# Altium schematic symbol library SiLabs Microcontroller 8-Bit 8051.SchLib: 120 symbols (part 2 of 9)
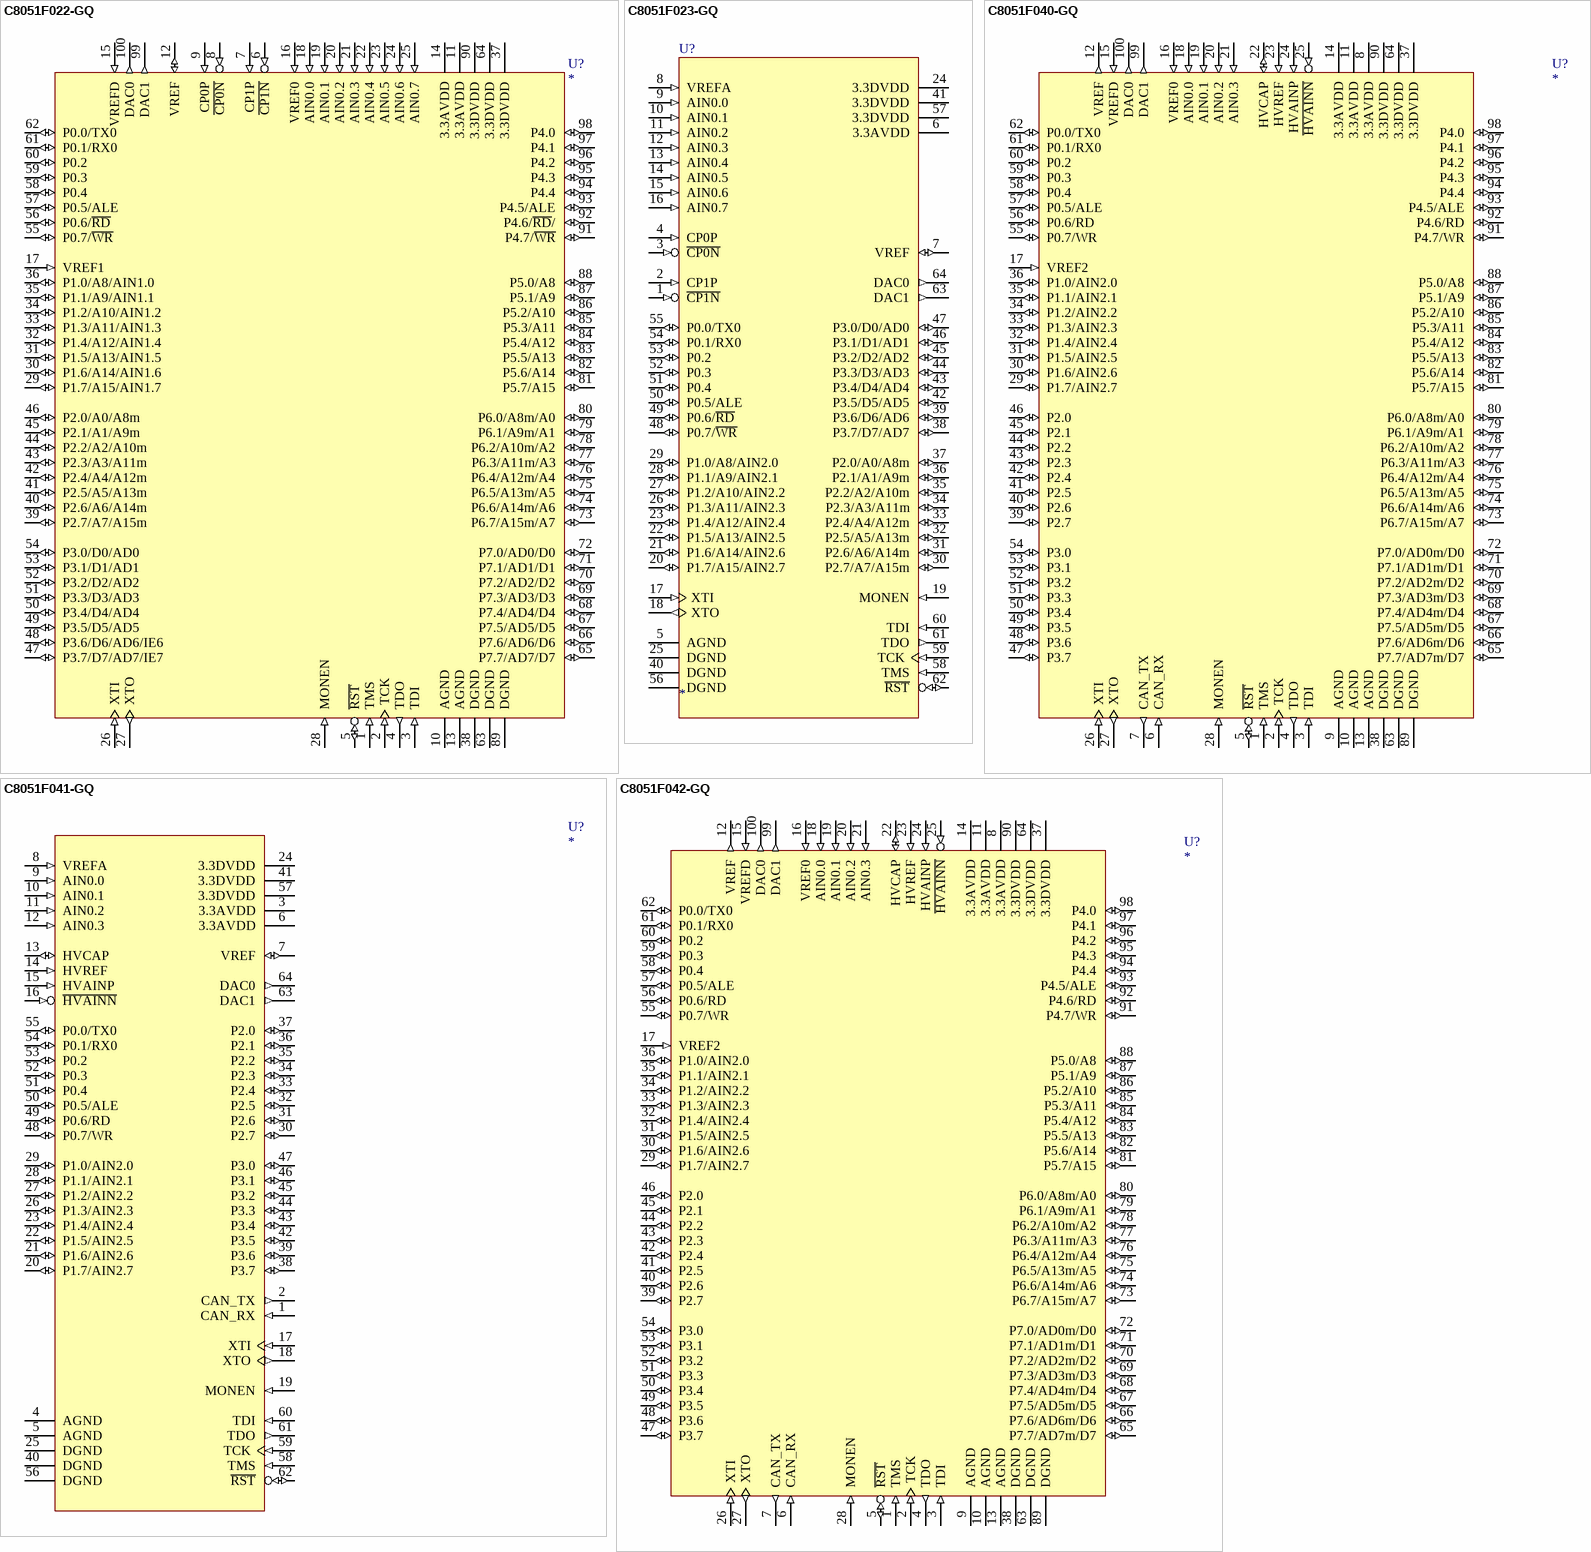
[diagram p15: symbols C8051F022-GQ to C8051F042-GQ]

## C8051F022-GQ
designator U?
8051 Microcontroller, 25MIPS, 64KiB Flash, 256Byte RAM + 4KiB XRAM, 64KiB EMIF, Internal Oscillator, 5-16bit Timer, 8CH 100ksps 10bit ADC, 8CH 500ksps 8bit ADC, 2CH 12bit DAC, 2 UART, I2C, SPI, PCA, 2 Comparator, 64GPIO.; Manufacture: Silicon Laboratories; Compliant: RoHS; CompliantInformationSource: Silicon Laboratries; PackageDocument: 2003-12; TempertureRange: Industrial (-40 to +85Cel); ComponentLink1Description: Manufacture Link; ComponentLink1URL: http://www.silabs.com/; ComponentLink2Description: Datasheet; ComponentLink2URL: https://www.silabs.com/Support Documents/TechnicalDocs/C8051F02x.pdf; DatasheetDocument: Rev. 1.4, 2003-12; PackageReference: TQFP-100; Published: 2006-05-07; Publisher: A and A System Co., Ltd.; DigiKeyPartNumber: 336-1202-ND
footprint TQFP-100/e0.5 (TQFP-100; Body Width 16mm; Pitch 0.5mm)
pins: 1 TMS (in) "JTAG Test Mode Select with internal pullup.", 2 TCK (in) "JTAG Test Clock with internal pullup.", 3 TDI (in) "JTAG Test Data Input with internal pullup.TDI is latched on the rising edge of TCK.", 4 TDO (out) "JTAG Test Data Output with internal pullup. Data is shifted out on TDO on the falling edge of TCK.  TDO output is a tri-state driver.", 5 ~{RST} (io) "Device Reset. Open-drain output of internal VDD monitor. Is driven low when VDD is < VRST and  MONEN is high. An external source can initiate  a system reset by driving this pin low.", 6 ~{CP1N} (in) "Comparator 1 Inverting Input.", 7 CP1P (in) "Comparator 1 Non-Inverting Input.", 8 ~{CP0N} (in) "Comparator 0 Inverting Input.", 9 CP0P (in) "Comparator 0 Non-Inverting Input.", 10 AGND (power) "Analog Ground. Must be tied to Ground.", 11 3.3AVDD (power) "Analog Supply Voltage. Must be tied to +2.7 to +3.6 V.", 12 VREF (io) "Bandgap Voltage Reference Output (all devices). DAC Voltage Reference Input (C8051F121/3/5/7 only).", 13 AGND (power) "Analog Ground. Must be tied to Ground.", 14 3.3AVDD (power) "Analog Supply Voltage. Must be tied to +2.7 to +3.6 V.", 15 VREFD (in) "DAC Voltage Reference Input.", 16 VREF0 (in) "ADC0 Voltage Reference Input.", 17 VREF1 (in) "ADC2 Voltage Reference Input.", 18 AIN0.0 (in) "ADC0 Input Channel 0 (See ADC0 Specification for complete description).", 19 AIN0.1 (in) "ADC0 Input Channel 1 (See ADC0 Specification for complete description).", 20 AIN0.2 (in) "ADC0 Input Channel 2 (See ADC0 Specification for complete description).", 21 AIN0.3 (in) "ADC0 Input Channel 3 (See ADC0 Specification for complete description).", 22 AIN0.4 (in) "ADC0 Input Channel 4 (See ADC0 Specification for complete description).", 23 AIN0.5 (in) "ADC0 Input Channel 5 (See ADC0 Specification for complete description).", 24 AIN0.6 (in) "ADC0 Input Channel 6 (See ADC0 Specification for complete description).", 25 AIN0.7 (in) "ADC0 Input Channel 7 (See ADC0 Specification for complete description).", 26 XTI (in) "Crystal Input. This pin is the return for the internal oscillator circuit for a crystal or ceramic resonator. For a precision internal clock, connect a crystal or ceramic resonator from XTAL1 to XTAL2. If overdriven by an external CMOS clock, this become", 27 XTO (out) "Crystal Output. This pin is the excitation driver for a crystal or ceramic resonator.", 28 MONEN (in) "VDD Monitor Enable. When tied high, this pin enables the internal VDD monitor, which forces a system reset when VDD is < VRST. When tied low, the internal VDD monitor is disabled. This pin must be tied high or low.", 29 P1.7/A15/AIN1.7 (io) "Port 1.7. See Port Input/Output section for complete description.", 30 P1.6/A14/AIN1.6 (io) "Port 1.6. See Port Input/Output section for complete description.", 31 P1.5/A13/AIN1.5 (io) "Port 1.5. See Port Input/Output section for complete  !description.", 32 P1.4/A12/AIN1.4 (io) "Port 1.4. See Port Input/Output section for complete description.", 33 P1.3/A11/AIN1.3 (io) "Port 1.3. See Port Input/Output section for complete description.", 34 P1.2/A10/AIN1.2 (io) "Port 1.2. See Port Input/Output section for complete description.", 35 P1.1/A9/AIN1.1 (io) "Port 1.1. See Port Input/Output section for complete description.", 36 P1.0/A8/AIN1.0 (io) "ADC2 Input Channel 0 (See ADC2 Specification for complete description). Bit 8 External Memory Address bus (Non-multiplexed  mode)  Port 1.0 See Port Input/Output section for complete description.", 37 3.3DVDD (power) "Digital Supply Voltage. Must be tied to +2.7 to +3.6 V.", 38 DGND (power) "Digital Ground. Must be tied to Ground.", 39 P2.7/A7/A15m (io) "Port 2.7. See Port Input/Output section for complete description.", 40 P2.6/A6/A14m (io) "Port 2.6. See Port Input/Output section for complete description.", 41 P2.5/A5/A13m (io) "Port 2.5. See Port Input/Output section for complete description.", 42 P2.4/A4/A12m (io) "Port 2.4. See Port Input/Output section for complete description.", 43 P2.3/A3/A11m (io) "Port 2.3. See Port Input/Output section for complete description.", 44 P2.2/A2/A10m (io) "Port 2.2. See Port Input/Output section for complete description.", 45 P2.1/A1/A9m (io) "Port 2.1. See Port Input/Output section for complete description.", 46 P2.0/A0/A8m (io) "Port 2.0. Bit 8 External Memory Address bus (Multiplexed mode) Bit 0 External Memory Address bus (Non-multiplexed mode) See Port Input/Output section for complete description.", 47 P3.7/D7/AD7/IE7 (io) "Port 3.7. See Port Input/Output section for complete description.", 48 P3.6/D6/AD6/IE6 (io) "OPort 3.6. See Port Input/Output section for complete description.", 49 P3.5/D5/AD5 (io) "Port 3.5. See Port Input/Output section for complete description.", 50 P3.4/D4/AD4 (io) "OPort 3.4. See Port Input/Output section for complete description.", 51 P3.3/D3/AD3 (io) "OPort 3.3. See Port Input/Output section for complete description.", 52 P3.2/D2/AD2 (io) "OPort 3.2. See Port Input/Output section for complete description.", 53 P3.1/D1/AD1 (io) "OPort 3.1. See Port Input/Output section for complete description.", 54 P3.0/D0/AD0 (io) "Port 3.0. Bit 0 External Memory Address/Data bus (Multiplexed  mode)  Bit 0 External Memory Data bus (Non-multiplexed  mode) See Port Input/Output section for complete description.", 55 P0.7/~{WR} (io) "Port 0.7. WR Strobe for External Memory Address bus. See Port Input/Output section for complete description.", 56 P0.6/~{RD} (io) "Port 0.6. RD Strobe for External Memory Address bus. See Port Input/Output section for complete description.", 57 P0.5/ALE (io) "Port 0.5. ALE Strobe for External Memory Address bus (multiplexed mode) See Port Input/Output section for complete description.", 58 P0.4 (io) "Port 0.4. See Port Input/Output section for complete description.", 59 P0.3 (io) "Port 0.3. See Port Input/Output section for complete description.", 60 P0.2 (io) "Port 0.2. See Port Input/Output section for complete description.", 61 P0.1/RX0 (io) "Port 0.1. See Port Input/Output section for complete description.", 62 P0.0/TX0 (io) "Port 0.0. See Port Input/Output section for complete description.", 63 DGND (power) "Digital Ground. Must be tied to Ground.", 64 3.3DVDD (power) "Digital Supply Voltage. Must be tied to +2.7 to +3.6 V.", 65 P7.7/AD7/D7 (io) "Port 7.7. See Port Input/Output section for complete description.", 66 P7.6/AD6/D6 (io) "Port 7.6. See Port Input/Output section for complete description.", 67 P7.5/AD5/D5 (io) "Port 7.5. See Port Input/Output section for complete description.", 68 P7.4/AD4/D4 (io) "Port 7.4. See Port Input/Output section for complete description.", 69 P7.3/AD3/D3 (io) "Port 7.3. See Port Input/Output section for complete description.", 70 P7.2/AD2/D2 (io) "Port 7.2. See Port Input/Output section for complete description.", 71 P7.1/AD1/D1 (io) "Port 7.1. See Port Input/Output section for complete description.", 72 P7.0/AD0/D0 (io) "Port 7.0. Bit 0 External Memory Address/Data bus (Multiplexed mode) Bit 0 External Memory Data bus (Non-multiplexed mode) See Port Input/Output section for complete description.", 73 P6.7/A15m/A7 (io) "Port 6.7. See Port Input/Output section for complete description.", 74 P6.6/A14m/A6 (io) "Port 6.6. See Port Input/Output section for complete description.", 75 P6.5/A13m/A5 (io) "Port 6.5. See Port Input/Output section for complete description.", 76 P6.4/A12m/A4 (io) "Port 6.4. See Port Input/Output section for complete description.", 77 P6.3/A11m/A3 (io) "Port 6.3. See Port Input/Output section for complete description.", 78 P6.2/A10m/A2 (io) "Port 6.2. See Port Input/Output section for complete description.", 79 P6.1/A9m/A1 (io) "Port 6.1. See Port Input/Output section for complete description.", 80 P6.0/A8m/A0 (io) "Port6.0. Bit 8 External Memory Address bus (Multiplexed mode) Bit 0 External Memory Address bus (Non-multiplexed mode) See Port Input/Output section for complete description.", 81 P5.7/A15 (io) "Port 5.7. See Port Input/Output section for complete description.", 82 P5.6/A14 (io) "Port 5.6. See Port Input/Output section for complete description.", 83 P5.5/A13 (io) "Port 5.5. See Port Input/Output section for complete description.", 84 P5.4/A12 (io) "Port 5.4. See Port Input/Output section for complete description.", 85 P5.3/A11 (io) "Port 5.3. See Port Input/Output section for complete description.", 86 P5.2/A10 (io) "Port 5.2. See Port Input/Output section for complete description.", 87 P5.1/A9 (io) "Port 5.1. See Port Input/Output section for complete description.", 88 P5.0/A8 (io) "Port 5.0. Bit 8 External Memory Address bus (Non-multiplexed mode) See Port Input/Output section for complete description.", 89 DGND (power) "Digital Ground. Must be tied to Ground.", 90 3.3DVDD (power) "Digital Supply Voltage. Must be tied to +2.7 to +3.6 V.", 91 P4.7/~{WR} (io) "Port 4.7. WR Strobe for External Memory Address bus. See Port Input/Output section for complete description.", 92 P4.6/~{RD}/ (io) "P4.6. RD Strobe for External Memory Address bus. See Port Input/Output section for complete description.", 93 P4.5/ALE (io) "Port 4.5, ALE Strobe for External Memory Address bus (multiplexed mode) See Port Input/Output section for complete description.", 94 P4.4 (io) "Port 4.4. See Port Input/Output section for complete description.", 95 P4.3 (io) "Port 4.3. See Port Input/Output section for complete description.", 96 P4.2 (io) "Port 4.2. See Port Input/Output section for complete description.", 97 P4.1 (io) "Port 4.1. See Port Input/Output section for complete description.", 98 P4.0 (io) "Port 4.0. See Port Input/Output section for complete description.", 99 DAC1 (out) "Digital to Analog Converter 1 Voltage Output. (See DAC Specification for complete description).", 100 DAC0 (out) "Digital to Analog Converter 0 Voltage Output. (See DAC Specification for complete description)."

## C8051F023-GQ
designator U?
8051 Microcontroller, 25MIPS, 64KiB Flash, 256Byte RAM + 4KiB XRAM, 64KiB EMIF, Internal Oscillator, 5-16bit Timer, 8CH 100ksps 10bit ADC, 8CH 500ksps 8bit ADC, 2CH 12bit DAC, 2 UART, I2C, SPI, PCA, 2 Comparator, 32GPIO.; Manufacture: Silicon Laboratories; Compliant: RoHS; CompliantInformationSource: Silicon Laboratries; PackageDocument: 2003-12; TempertureRange: Industrial (-40 to +85Cel); ComponentLink1Description: Manufacture Link; ComponentLink1URL: http://www.silabs.com/; ComponentLink2Description: Datasheet; ComponentLink2URL: https://www.silabs.com/Support Documents/TechnicalDocs/C8051F02x.pdf; DatasheetDocument: Rev. 1.4, 2003-12; PackageReference: TQFP-64; Published: 2006-05-07; Publisher: A and A System Co., Ltd.; DigiKeyPartNumber: 336-1203-ND
footprint TQFP-64/e0.5 (TQFP-64; Body Width 12mm; Pitch 0.5mm)
pins: 1 ~{CP1N} (in) "Comparator 1 Inverting Input.", 2 CP1P (in) "Comparator 1 Non-Inverting Input.", 3 ~{CP0N} (in) "Comparator 0 Inverting Input.", 4 CP0P (in) "Comparator 0 Non-Inverting Input.", 5 AGND (power) "Analog Ground. Must be tied to Ground.", 6 3.3AVDD (power) "Analog Supply Voltage. Must be tied to +2.7 to +3.6 V.", 7 VREF (io) "Bandgap Voltage Reference Output (all devices). DAC Voltage Reference Input (C8051F121/3/5/7 only).", 8 VREFA (in) "ADC0 and ADC2 Voltage Reference Input.", 9 AIN0.0 (in) "ADC0 Input Channel 0 (See ADC0 Specification for complete description).", 10 AIN0.1 (in) "ADC0 Input Channel 1 (See ADC0 Specification for complete description).", 11 AIN0.2 (in) "ADC0 Input Channel 2 (See ADC0 Specification for complete description).", 12 AIN0.3 (in) "ADC0 Input Channel 3 (See ADC0 Specification for complete description).", 13 AIN0.4 (in) "ADC0 Input Channel 4 (See ADC0 Specification for complete description).", 14 AIN0.5 (in) "ADC0 Input Channel 5 (See ADC0 Specification for complete description).", 15 AIN0.6 (in) "ADC0 Input Channel 6 (See ADC0 Specification for complete description).", 16 AIN0.7 (in) "ADC0 Input Channel 7 (See ADC0 Specification for complete description).", 17 XTI (in) "Crystal Input. This pin is the return for the internal oscillator circuit for a crystal or ceramic resonator. For a precision internal clock, connect a crystal or ceramic resonator from XTAL1 to XTAL2. If overdriven by an external CMOS clock, this become", 18 XTO (out) "Crystal Output. This pin is the excitation driver for a crystal or ceramic resonator.", 19 MONEN (in) "VDD Monitor Enable. When tied high, this pin enables the internal VDD monitor, which forces a system reset when VDD is < VRST. When tied low, the internal VDD monitor is disabled. This pin must be tied high or low.", 20 P1.7/A15/AIN2.7 (io) "Port 1.7. See Port Input/Output section for complete description.", 21 P1.6/A14/AIN2.6 (io) "Port 1.6. See Port Input/Output section for complete description.", 22 P1.5/A13/AIN2.5 (io) "Port 1.5. See Port Input/Output section for complete  !description.", 23 P1.4/A12/AIN2.4 (io) "Port 1.4. See Port Input/Output section for complete description.", 24 3.3DVDD (power) "Digital Supply Voltage. Must be tied to +2.7 to +3.6 V.", 25 DGND (power) "Digital Ground. Must be tied to Ground.", 26 P1.3/A11/AIN2.3 (io) "Port 1.3. See Port Input/Output section for complete description.", 27 P1.2/A10/AIN2.2 (io) "Port 1.2. See Port Input/Output section for complete description.", 28 P1.1/A9/AIN2.1 (io) "Port 1.1. See Port Input/Output section for complete description.", 29 P1.0/A8/AIN2.0 (io) "ADC2 Input Channel 0 (See ADC2 Specification for complete description). Bit 8 External Memory Address bus (Non-multiplexed  mode)  Port 1.0 See Port Input/Output section for complete description.", 30 P2.7/A7/A15m (io) "Port 2.7. See Port Input/Output section for complete description.", 31 P2.6/A6/A14m (io) "Port 2.6. See Port Input/Output section for complete description.", 32 P2.5/A5/A13m (io) "Port 2.5. See Port Input/Output section for complete description.", 33 P2.4/A4/A12m (io) "Port 2.4. See Port Input/Output section for complete description.", 34 P2.3/A3/A11m (io) "Port 2.3. See Port Input/Output section for complete description.", 35 P2.2/A2/A10m (io) "Port 2.2. See Port Input/Output section for complete description.", 36 P2.1/A1/A9m (io) "Port 2.1. See Port Input/Output section for complete description.", 37 P2.0/A0/A8m (io) "Port 2.0. Bit 8 External Memory Address bus (Multiplexed mode) Bit 0 External Memory Address bus (Non-multiplexed mode) See Port Input/Output section for complete description.", 38 P3.7/D7/AD7 (io) "Port 3.7. See Port Input/Output section for complete description.", 39 P3.6/D6/AD6 (io) "OPort 3.6. See Port Input/Output section for complete description.", 40 DGND (power) "Digital Ground. Must be tied to Ground.", 41 3.3DVDD (power) "Digital Supply Voltage. Must be tied to +2.7 to +3.6 V.", 42 P3.5/D5/AD5 (io) "Port 3.5. See Port Input/Output section for complete description.", 43 P3.4/D4/AD4 (io) "OPort 3.4. See Port Input/Output section for complete description.", 44 P3.3/D3/AD3 (io) "OPort 3.3. See Port Input/Output section for complete description.", 45 P3.2/D2/AD2 (io) "OPort 3.2. See Port Input/Output section for complete description.", 46 P3.1/D1/AD1 (io) "OPort 3.1. See Port Input/Output section for complete description.", 47 P3.0/D0/AD0 (io) "Port 3.0. Bit 0 External Memory Address/Data bus (Multiplexed  mode)  Bit 0 External Memory Data bus (Non-multiplexed  mode) See Port Input/Output section for complete description.", 48 P0.7/~{WR} (io) "Port 0.7, WR Strobe for External Memory Address bus. See Port Input/Output section for complete description.", 49 P0.6/~{RD} (io) "Port 0.6, RD Strobe for External Memory Address bus. See Port Input/Output section for complete description.", 50 P0.5/ALE (io) "Port 0.5. ALE Strobe for External Memory Address bus (multiplexed mode) See Port Input/Output section for complete description.", 51 P0.4 (io) "Port 0.4. See Port Input/Output section for complete description.", 52 P0.3 (io) "Port 0.3. See Port Input/Output section for complete description.", 53 P0.2 (io) "Port 0.2. See Port Input/Output section for complete description.", 54 P0.1/RX0 (io) "Port 0.1. See Port Input/Output section for complete description.", 55 P0.0/TX0 (io) "Port 0.0. See Port Input/Output section for complete description.", 56 DGND (power) "Digital Ground. Must be tied to Ground.", 57 3.3DVDD (power) "Digital Supply Voltage. Must be tied to +2.7 to +3.6 V.", 58 TMS (in) "JTAG Test Mode Select with internal pullup.", 59 TCK (in) "JTAG Test Clock with internal pullup.", 60 TDI (in) "JTAG Test Data Input with internal pullup.TDI is latched on the rising edge of TCK.", 61 TDO (out) "JTAG Test Data Output with internal pullup. Data is shifted out on TDO on the falling edge of TCK.  TDO output is a tri-state driver.", 62 ~{RST} (io) "Device Reset. Open-drain output of internal VDD monitor. Is driven low when VDD is < VRST and  MONEN is high. An external source can initiate  a system reset by driving this pin low.", 63 DAC1 (out) "Digital to Analog Converter 1 Voltage Output. (See DAC Specification for complete description).", 64 DAC0 (out) "Digital to Analog Converter 0 Voltage Output. (See DAC Specification for complete description)."

## C8051F040-GQ
designator U?
CAN 8051 Microcontroller, 25MIPS, 64KiB Flash, 256Byte RAM + 4KiB XRAM, 64KiB EMIF, Internal Oscillator, 5-16bit Timer, 13CH 100ksps 12bit ADC, 8CH 500ksps 8bit ADC, 2CH 12bit DAC, CAN 2.0B, 2 UART, I2C, SPI, PCA, 3 Comparator, 64GPIO.; Manufacture: Silicon Laboratories; Compliant: RoHS; CompliantInformationSource: Silicon Laboratries; PackageDocument: 2005-12; TempertureRange: Industrial (-40 to +85Cel); ComponentLink1Description: Manufacture Link; ComponentLink1URL: http://www.silabs.com/; ComponentLink2Description: Datasheet; ComponentLink2URL: https://www.silabs.com/Support Documents/TechnicalDocs/C8051F04x.pdf; DatasheetDocument: Rev. 1.5, 2005-12; PackageReference: TQFP-100; Published: 2008-09-16; Publisher: A and A System Co., Ltd.; DigiKeyPartNumber: 336-1204-ND
footprint TQFP-100/e0.5 (TQFP-100; Body Width 16mm; Pitch 0.5mm)
pins: 1 TMS (in), 2 TCK (in), 3 TDI (in), 4 TDO (out), 5 ~{RST} (io), 6 CAN_RX (in), 7 CAN_TX (out), 8 3.3AVDD (power), 9 AGND (power), 10 AGND (power), 11 3.3AVDD (power), 12 VREF (out), 13 AGND (power), 14 3.3AVDD (power), 15 VREFD (in), 16 VREF0 (in), 17 VREF2 (in), 18 AIN0.0 (in), 19 AIN0.1 (in), 20 AIN0.2 (in), 21 AIN0.3 (in), 22 HVCAP (io), 23 HVREF (in), 24 HVAINP (in), 25 ~{HVAINN} (in), 26 XTI (in), 27 XTO (out), 28 MONEN (in), 29 P1.7/AIN2.7 (io), 30 P1.6/AIN2.6 (io), 31 P1.5/AIN2.5 (io), 32 P1.4/AIN2.4 (io), 33 P1.3/AIN2.3 (io), 34 P1.2/AIN2.2 (io), 35 P1.1/AIN2.1 (io), 36 P1.0/AIN2.0 (io), 37 3.3DVDD (power), 38 DGND (power), 39 P2.7 (io), 40 P2.6 (io), 41 P2.5 (io), 42 P2.4 (io), 43 P2.3 (io), 44 P2.2 (io), 45 P2.1 (io), 46 P2.0 (io), 47 P3.7 (io), 48 P3.6 (io), 49 P3.5 (io), 50 P3.4 (io), 51 P3.3 (io), 52 P3.2 (io), 53 P3.1 (io), 54 P3.0 (io), 55 P0.7/WR (io), 56 P0.6/RD (io), 57 P0.5/ALE (io), 58 P0.4 (io), 59 P0.3 (io), 60 P0.2 (io), 61 P0.1/RX0 (io), 62 P0.0/TX0 (io), 63 DGND (power), 64 3.3DVDD (power), 65 P7.7/AD7m/D7 (io), 66 P7.6/AD6m/D6 (io), 67 P7.5/AD5m/D5 (io), 68 P7.4/AD4m/D4 (io), 69 P7.3/AD3m/D3 (io), 70 P7.2/AD2m/D2 (io), 71 P7.1/AD1m/D1 (io), 72 P7.0/AD0m/D0 (io), 73 P6.7/A15m/A7 (io), 74 P6.6/A14m/A6 (io), 75 P6.5/A13m/A5 (io), 76 P6.4/A12m/A4 (io), 77 P6.3/A11m/A3 (io), 78 P6.2/A10m/A2 (io), 79 P6.1/A9m/A1 (io), 80 P6.0/A8m/A0 (io), 81 P5.7/A15 (io), 82 P5.6/A14 (io), 83 P5.5/A13 (io), 84 P5.4/A12 (io), 85 P5.3/A11 (io), 86 P5.2/A10 (io), 87 P5.1/A9 (io), 88 P5.0/A8 (io), 89 DGND (power), 90 3.3DVDD (power), 91 P4.7/WR (io), 92 P4.6/RD (io), 93 P4.5/ALE (io), 94 P4.4 (io), 95 P4.3 (io), 96 P4.2 (io), 97 P4.1 (io), 98 P4.0 (io), 99 DAC1 (out), 100 DAC0 (out)

## C8051F041-GQ
designator U?
CAN 8051 Microcontroller, 25MIPS, 64KiB Flash, 256Byte RAM + 4KiB XRAM, 64KiB EMIF, Internal Oscillator, 5-16bit Timer, 13CH 100ksps 12bit ADC, 8CH 500ksps 8bit ADC, 2CH 12bit DAC, CAN 2.0B, 2 UART, I2C, SPI, PCA, 3 Comparator, 32GPIO.; Manufacture: Silicon Laboratories; Compliant: RoHS; CompliantInformationSource: Silicon Laboratries; PackageDocument: 2005-12; TempertureRange: Industrial (-40 to +85Cel); ComponentLink1Description: Manufacture Link; ComponentLink1URL: http://www.silabs.com/; ComponentLink2Description: Datasheet; ComponentLink2URL: https://www.silabs.com/Support Documents/TechnicalDocs/C8051F04x.pdf; DatasheetDocument: Rev. 1.5, 2005-12; PackageReference: TQFP-64; Published: 2008-09-16; Publisher: A and A System Co., Ltd.; DigiKeyPartNumber: 336-1206-ND
footprint TQFP-64/e0.5 (TQFP-64; JEDEC MS-026ACD; Body 10.00x10.00x1.20mm; Pitch 0.5mm;)
pins: 1 CAN_RX (in), 2 CAN_TX (out), 3 3.3AVDD (power), 4 AGND (power), 5 AGND (power), 6 3.3AVDD (power), 7 VREF (io), 8 VREFA (in), 9 AIN0.0 (in), 10 AIN0.1 (in), 11 AIN0.2 (in), 12 AIN0.3 (in), 13 HVCAP (io), 14 HVREF (in), 15 HVAINP (in), 16 ~{HVAINN} (in), 17 XTI (in), 18 XTO (out), 19 MONEN (in), 20 P1.7/AIN2.7 (io), 21 P1.6/AIN2.6 (io), 22 P1.5/AIN2.5 (io), 23 P1.4/AIN2.4 (io), 24 3.3DVDD (power), 25 DGND (power), 26 P1.3/AIN2.3 (io), 27 P1.2/AIN2.2 (io), 28 P1.1/AIN2.1 (io), 29 P1.0/AIN2.0 (io), 30 P2.7 (io), 31 P2.6 (io), 32 P2.5 (io), 33 P2.4 (io), 34 P2.3 (io), 35 P2.2 (io), 36 P2.1 (io), 37 P2.0 (io), 38 P3.7 (io), 39 P3.6 (io), 40 DGND (power), 41 3.3DVDD (power), 42 P3.5 (io), 43 P3.4 (io), 44 P3.3 (io), 45 P3.2 (io), 46 P3.1 (io), 47 P3.0 (io), 48 P0.7/WR (io), 49 P0.6/RD (io), 50 P0.5/ALE (io), 51 P0.4 (io), 52 P0.3 (io), 53 P0.2 (io), 54 P0.1/RX0 (io), 55 P0.0/TX0 (io), 56 DGND (power), 57 3.3DVDD (power), 58 TMS (in), 59 TCK (in), 60 TDI (in), 61 TDO (out), 62 ~{RST} (io), 63 DAC1 (out), 64 DAC0 (out)

## C8051F042-GQ
designator U?
CAN 8051 Microcontroller, 25MIPS, 64KiB Flash, 256Byte RAM + 4KiB XRAM, 64KiB EMIF, Internal Oscillator, 5-16bit Timer, 13CH 100ksps 10bit ADC, 8CH 500ksps 8bit ADC, 2CH 12bit DAC, CAN 2.0B, 2 UART, I2C, SPI, PCA, 3 Comparator, 64GPIO.; Manufacture: Silicon Laboratories; Compliant: RoHS; CompliantInformationSource: Silicon Laboratries; PackageDocument: 2005-12; TempertureRange: Industrial (-40 to +85Cel); ComponentLink1Description: Manufacture Link; ComponentLink1URL: http://www.silabs.com/; ComponentLink2Description: Datasheet; ComponentLink2URL: https://www.silabs.com/Support Documents/TechnicalDocs/C8051F04x.pdf; DatasheetDocument: Rev. 1.5, 2005-12; PackageReference: TQFP-100; Published: 2008-09-16; Publisher: A and A System Co., Ltd.; DigiKeyPartNumber: 336-1207-ND
footprint TQFP-100/e0.5 (TQFP-100; Body Width 16mm; Pitch 0.5mm)
pins: 1 TMS (in), 2 TCK (in), 3 TDI (in), 4 TDO (out), 5 ~{RST} (io), 6 CAN_RX (in), 7 CAN_TX (out), 8 3.3AVDD (power), 9 AGND (power), 10 AGND (power), 11 3.3AVDD (power), 12 VREF (out), 13 AGND (power), 14 3.3AVDD (power), 15 VREFD (in), 16 VREF0 (in), 17 VREF2 (in), 18 AIN0.0 (in), 19 AIN0.1 (in), 20 AIN0.2 (in), 21 AIN0.3 (in), 22 HVCAP (io), 23 HVREF (in), 24 HVAINP (in), 25 ~{HVAINN} (in), 26 XTI (in), 27 XTO (out), 28 MONEN (in), 29 P1.7/AIN2.7 (io), 30 P1.6/AIN2.6 (io), 31 P1.5/AIN2.5 (io), 32 P1.4/AIN2.4 (io), 33 P1.3/AIN2.3 (io), 34 P1.2/AIN2.2 (io), 35 P1.1/AIN2.1 (io), 36 P1.0/AIN2.0 (io), 37 3.3DVDD (power), 38 DGND (power), 39 P2.7 (io), 40 P2.6 (io), 41 P2.5 (io), 42 P2.4 (io), 43 P2.3 (io), 44 P2.2 (io), 45 P2.1 (io), 46 P2.0 (io), 47 P3.7 (io), 48 P3.6 (io), 49 P3.5 (io), 50 P3.4 (io), 51 P3.3 (io), 52 P3.2 (io), 53 P3.1 (io), 54 P3.0 (io), 55 P0.7/WR (io), 56 P0.6/RD (io), 57 P0.5/ALE (io), 58 P0.4 (io), 59 P0.3 (io), 60 P0.2 (io), 61 P0.1/RX0 (io), 62 P0.0/TX0 (io), 63 DGND (power), 64 3.3DVDD (power), 65 P7.7/AD7m/D7 (io), 66 P7.6/AD6m/D6 (io), 67 P7.5/AD5m/D5 (io), 68 P7.4/AD4m/D4 (io), 69 P7.3/AD3m/D3 (io), 70 P7.2/AD2m/D2 (io), 71 P7.1/AD1m/D1 (io), 72 P7.0/AD0m/D0 (io), 73 P6.7/A15m/A7 (io), 74 P6.6/A14m/A6 (io), 75 P6.5/A13m/A5 (io), 76 P6.4/A12m/A4 (io), 77 P6.3/A11m/A3 (io), 78 P6.2/A10m/A2 (io), 79 P6.1/A9m/A1 (io), 80 P6.0/A8m/A0 (io), 81 P5.7/A15 (io), 82 P5.6/A14 (io), 83 P5.5/A13 (io), 84 P5.4/A12 (io), 85 P5.3/A11 (io), 86 P5.2/A10 (io), 87 P5.1/A9 (io), 88 P5.0/A8 (io), 89 DGND (power), 90 3.3DVDD (power), 91 P4.7/WR (io), 92 P4.6/RD (io), 93 P4.5/ALE (io), 94 P4.4 (io), 95 P4.3 (io), 96 P4.2 (io), 97 P4.1 (io), 98 P4.0 (io), 99 DAC1 (out), 100 DAC0 (out)

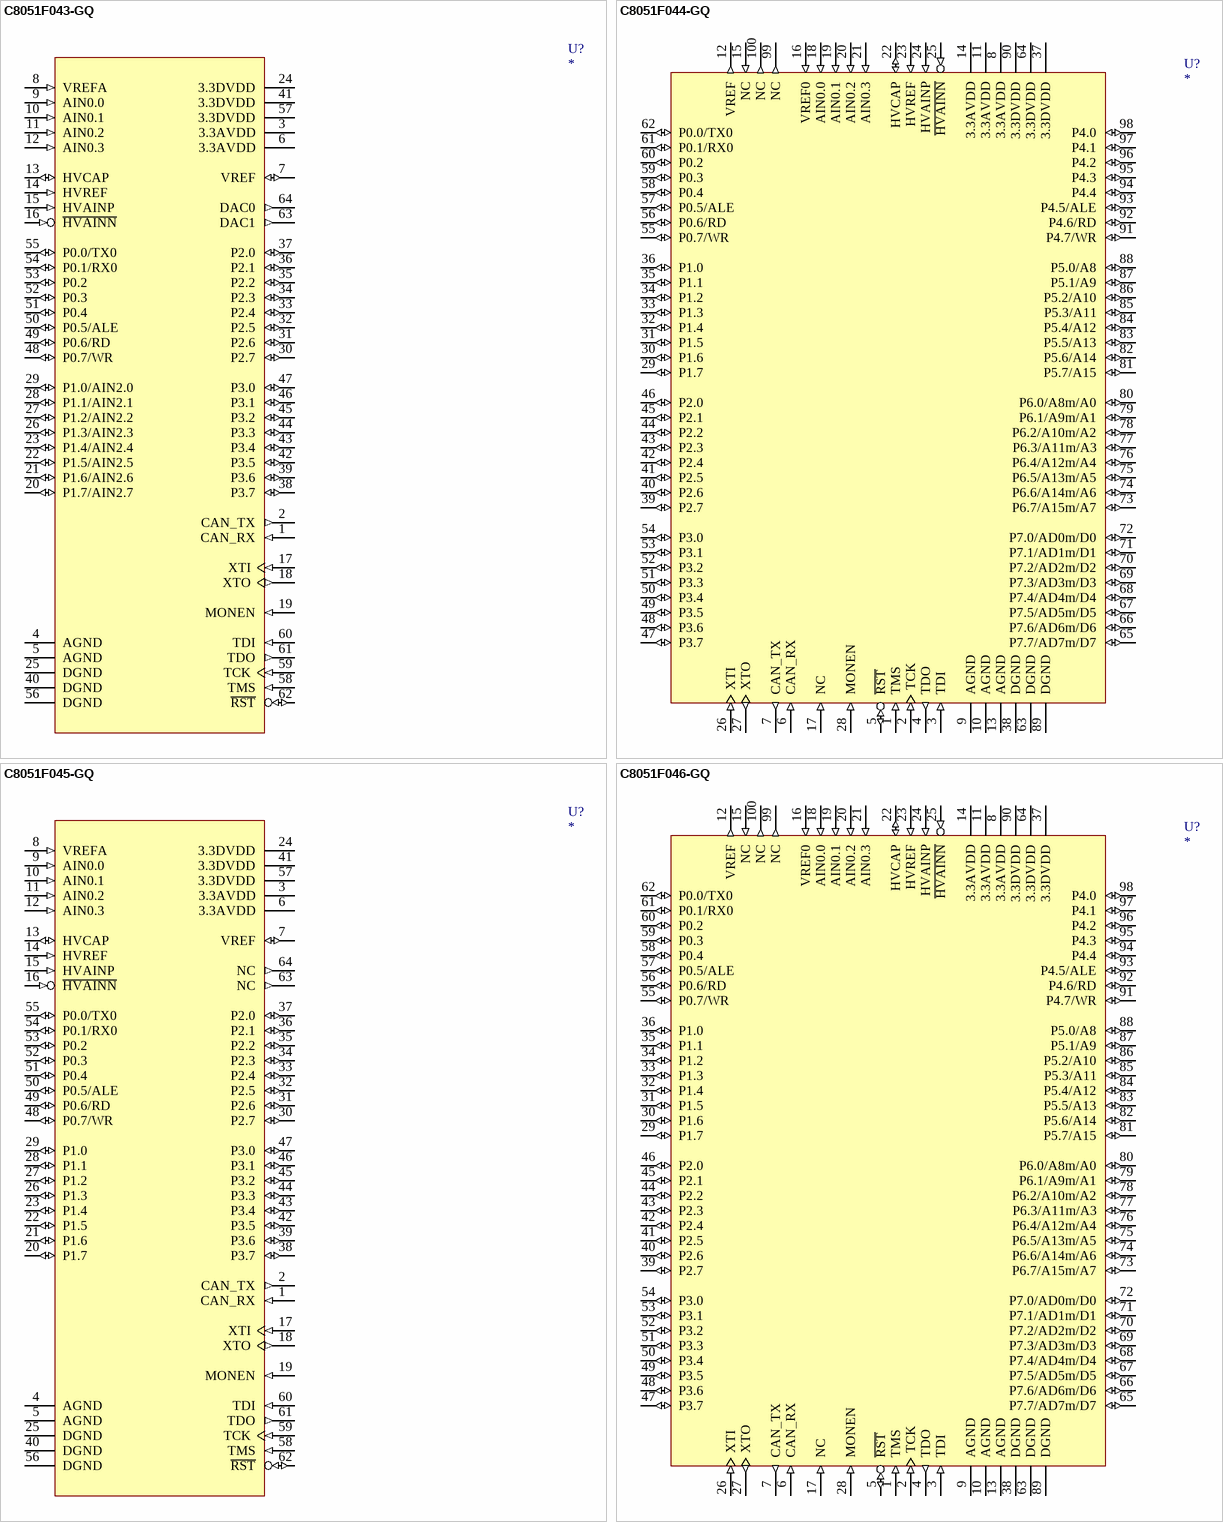
[diagram p5: symbols C8051F043-GQ to C8051F046-GQ]

## C8051F043-GQ
designator U?
CAN 8051 Microcontroller, 25MIPS, 64KiB Flash, 256Byte RAM + 4KiB XRAM, 64KiB EMIF, Internal Oscillator, 5-16bit Timer, 13CH 100ksps 10bit ADC, 8CH 500ksps 8bit ADC, 2CH 12bit DAC, CAN 2.0B, 2 UART, I2C, SPI, PCA, 3 Comparator, 32GPIO.; Manufacture: Silicon Laboratories; Compliant: RoHS; CompliantInformationSource: Silicon Laboratries; PackageDocument: 2005-12; TempertureRange: Industrial (-40 to +85Cel); ComponentLink1Description: Manufacture Link; ComponentLink1URL: http://www.silabs.com/; ComponentLink2Description: Datasheet; ComponentLink2URL: https://www.silabs.com/Support Documents/TechnicalDocs/C8051F04x.pdf; DatasheetDocument: Rev. 1.5, 2005-12; PackageReference: TQFP-64; Published: 2008-09-16; Publisher: A and A System Co., Ltd.; DigiKeyPartNumber: 336-1208-ND
footprint TQFP-64/e0.5 (TQFP-64; JEDEC MS-026ACD; Body 10.00x10.00x1.20mm; Pitch 0.5mm;)
pins: 1 CAN_RX (in), 2 CAN_TX (out), 3 3.3AVDD (power), 4 AGND (power), 5 AGND (power), 6 3.3AVDD (power), 7 VREF (io), 8 VREFA (in), 9 AIN0.0 (in), 10 AIN0.1 (in), 11 AIN0.2 (in), 12 AIN0.3 (in), 13 HVCAP (io), 14 HVREF (in), 15 HVAINP (in), 16 ~{HVAINN} (in), 17 XTI (in), 18 XTO (out), 19 MONEN (in), 20 P1.7/AIN2.7 (io), 21 P1.6/AIN2.6 (io), 22 P1.5/AIN2.5 (io), 23 P1.4/AIN2.4 (io), 24 3.3DVDD (power), 25 DGND (power), 26 P1.3/AIN2.3 (io), 27 P1.2/AIN2.2 (io), 28 P1.1/AIN2.1 (io), 29 P1.0/AIN2.0 (io), 30 P2.7 (io), 31 P2.6 (io), 32 P2.5 (io), 33 P2.4 (io), 34 P2.3 (io), 35 P2.2 (io), 36 P2.1 (io), 37 P2.0 (io), 38 P3.7 (io), 39 P3.6 (io), 40 DGND (power), 41 3.3DVDD (power), 42 P3.5 (io), 43 P3.4 (io), 44 P3.3 (io), 45 P3.2 (io), 46 P3.1 (io), 47 P3.0 (io), 48 P0.7/WR (io), 49 P0.6/RD (io), 50 P0.5/ALE (io), 51 P0.4 (io), 52 P0.3 (io), 53 P0.2 (io), 54 P0.1/RX0 (io), 55 P0.0/TX0 (io), 56 DGND (power), 57 3.3DVDD (power), 58 TMS (in), 59 TCK (in), 60 TDI (in), 61 TDO (out), 62 ~{RST} (io), 63 DAC1 (out), 64 DAC0 (out)

## C8051F044-GQ
designator U?
CAN 8051 Microcontroller, 25MIPS, 64KiB Flash, 256Byte RAM + 4KiB XRAM, 64KiB EMIF, Internal Oscillator, 5-16bit Timer, 13CH 100ksps 10bit ADC, CAN 2.0B, 2 UART, I2C, SPI, PCA, 3 Comparator, 64GPIO.; Manufacture: Silicon Laboratories; Compliant: RoHS; CompliantInformationSource: Silicon Laboratries; PackageDocument: 2005-12; TempertureRange: Industrial (-40 to +85Cel); ComponentLink1Description: Manufacture Link; ComponentLink1URL: http://www.silabs.com/; ComponentLink2Description: Datasheet; ComponentLink2URL: https://www.silabs.com/Support Documents/TechnicalDocs/C8051F04x.pdf; DatasheetDocument: Rev. 1.5, 2005-12; PackageReference: TQFP-100; Published: 2008-09-16; Publisher: A and A System Co., Ltd.; DigiKeyPartNumber: 336-1209-ND
footprint TQFP-100/e0.5 (TQFP-100; Body Width 16mm; Pitch 0.5mm)
pins: 1 TMS (in), 2 TCK (in), 3 TDI (in), 4 TDO (out), 5 ~{RST} (io), 6 CAN_RX (in), 7 CAN_TX (out), 8 3.3AVDD (power), 9 AGND (power), 10 AGND (power), 11 3.3AVDD (power), 12 VREF (out), 13 AGND (power), 14 3.3AVDD (power), 15 NC (in), 16 VREF0 (in), 17 NC (in), 18 AIN0.0 (in), 19 AIN0.1 (in), 20 AIN0.2 (in), 21 AIN0.3 (in), 22 HVCAP (io), 23 HVREF (in), 24 HVAINP (in), 25 ~{HVAINN} (in), 26 XTI (in), 27 XTO (out), 28 MONEN (in), 29 P1.7 (io), 30 P1.6 (io), 31 P1.5 (io), 32 P1.4 (io), 33 P1.3 (io), 34 P1.2 (io), 35 P1.1 (io), 36 P1.0 (io), 37 3.3DVDD (power), 38 DGND (power), 39 P2.7 (io), 40 P2.6 (io), 41 P2.5 (io), 42 P2.4 (io), 43 P2.3 (io), 44 P2.2 (io), 45 P2.1 (io), 46 P2.0 (io), 47 P3.7 (io), 48 P3.6 (io), 49 P3.5 (io), 50 P3.4 (io), 51 P3.3 (io), 52 P3.2 (io), 53 P3.1 (io), 54 P3.0 (io), 55 P0.7/WR (io), 56 P0.6/RD (io), 57 P0.5/ALE (io), 58 P0.4 (io), 59 P0.3 (io), 60 P0.2 (io), 61 P0.1/RX0 (io), 62 P0.0/TX0 (io), 63 DGND (power), 64 3.3DVDD (power), 65 P7.7/AD7m/D7 (io), 66 P7.6/AD6m/D6 (io), 67 P7.5/AD5m/D5 (io), 68 P7.4/AD4m/D4 (io), 69 P7.3/AD3m/D3 (io), 70 P7.2/AD2m/D2 (io), 71 P7.1/AD1m/D1 (io), 72 P7.0/AD0m/D0 (io), 73 P6.7/A15m/A7 (io), 74 P6.6/A14m/A6 (io), 75 P6.5/A13m/A5 (io), 76 P6.4/A12m/A4 (io), 77 P6.3/A11m/A3 (io), 78 P6.2/A10m/A2 (io), 79 P6.1/A9m/A1 (io), 80 P6.0/A8m/A0 (io), 81 P5.7/A15 (io), 82 P5.6/A14 (io), 83 P5.5/A13 (io), 84 P5.4/A12 (io), 85 P5.3/A11 (io), 86 P5.2/A10 (io), 87 P5.1/A9 (io), 88 P5.0/A8 (io), 89 DGND (power), 90 3.3DVDD (power), 91 P4.7/WR (io), 92 P4.6/RD (io), 93 P4.5/ALE (io), 94 P4.4 (io), 95 P4.3 (io), 96 P4.2 (io), 97 P4.1 (io), 98 P4.0 (io), 99 NC (out), 100 NC (out)

## C8051F045-GQ
designator U?
CAN 8051 Microcontroller, 25MIPS, 64KiB Flash, 256Byte RAM + 4KiB XRAM, 64KiB EMIF, Internal Oscillator, 5-16bit Timer, 13CH 100ksps 10bit ADC, CAN 2.0B, 2 UART, I2C, SPI, PCA, 3 Comparator, 32GPIO.; Manufacture: Silicon Laboratories; Compliant: RoHS; CompliantInformationSource: Silicon Laboratries; PackageDocument: 2005-12; TempertureRange: Industrial (-40 to +85Cel); ComponentLink1Description: Manufacture Link; ComponentLink1URL: http://www.silabs.com/; ComponentLink2Description: Datasheet; ComponentLink2URL: https://www.silabs.com/Support Documents/TechnicalDocs/C8051F04x.pdf; DatasheetDocument: Rev. 1.5, 2005-12; PackageReference: TQFP-64; Published: 2008-09-16; Publisher: A and A System Co., Ltd.; DigiKeyPartNumber: 336-1210-ND
footprint TQFP-64/e0.5 (TQFP-64; JEDEC MS-026ACD; Body 10.00x10.00x1.20mm; Pitch 0.5mm;)
pins: 1 CAN_RX (in), 2 CAN_TX (out), 3 3.3AVDD (power), 4 AGND (power), 5 AGND (power), 6 3.3AVDD (power), 7 VREF (io), 8 VREFA (in), 9 AIN0.0 (in), 10 AIN0.1 (in), 11 AIN0.2 (in), 12 AIN0.3 (in), 13 HVCAP (io), 14 HVREF (in), 15 HVAINP (in), 16 ~{HVAINN} (in), 17 XTI (in), 18 XTO (out), 19 MONEN (in), 20 P1.7 (io), 21 P1.6 (io), 22 P1.5 (io), 23 P1.4 (io), 24 3.3DVDD (power), 25 DGND (power), 26 P1.3 (io), 27 P1.2 (io), 28 P1.1 (io), 29 P1.0 (io), 30 P2.7 (io), 31 P2.6 (io), 32 P2.5 (io), 33 P2.4 (io), 34 P2.3 (io), 35 P2.2 (io), 36 P2.1 (io), 37 P2.0 (io), 38 P3.7 (io), 39 P3.6 (io), 40 DGND (power), 41 3.3DVDD (power), 42 P3.5 (io), 43 P3.4 (io), 44 P3.3 (io), 45 P3.2 (io), 46 P3.1 (io), 47 P3.0 (io), 48 P0.7/WR (io), 49 P0.6/RD (io), 50 P0.5/ALE (io), 51 P0.4 (io), 52 P0.3 (io), 53 P0.2 (io), 54 P0.1/RX0 (io), 55 P0.0/TX0 (io), 56 DGND (power), 57 3.3DVDD (power), 58 TMS (in), 59 TCK (in), 60 TDI (in), 61 TDO (out), 62 ~{RST} (io), 63 NC (out), 64 NC (out)

## C8051F046-GQ
designator U?
CAN 8051 Microcontroller, 25MIPS, 32KiB Flash, 256Byte RAM + 4KiB XRAM, 64KiB EMIF, Internal Oscillator, 5-16bit Timer, 13CH 100ksps 10bit ADC, CAN 2.0B, 2 UART, I2C, SPI, PCA, 3 Comparator, 64GPIO.; Manufacture: Silicon Laboratories; Compliant: RoHS; CompliantInformationSource: Silicon Laboratries; PackageDocument: 2005-12; TempertureRange: Industrial (-40 to +85Cel); ComponentLink1Description: Manufacture Link; ComponentLink1URL: http://www.silabs.com/; ComponentLink2Description: Datasheet; ComponentLink2URL: https://www.silabs.com/Support Documents/TechnicalDocs/C8051F04x.pdf; DatasheetDocument: Rev. 1.5, 2005-12; PackageReference: TQFP-100; Published: 2008-09-16; Publisher: A and A System Co., Ltd.; DigiKeyPartNumber: 336-1211-ND
footprint TQFP-100/e0.5 (TQFP-100; Body Width 16mm; Pitch 0.5mm)
pins: 1 TMS (in), 2 TCK (in), 3 TDI (in), 4 TDO (out), 5 ~{RST} (io), 6 CAN_RX (in), 7 CAN_TX (out), 8 3.3AVDD (power), 9 AGND (power), 10 AGND (power), 11 3.3AVDD (power), 12 VREF (out), 13 AGND (power), 14 3.3AVDD (power), 15 NC (in), 16 VREF0 (in), 17 NC (in), 18 AIN0.0 (in), 19 AIN0.1 (in), 20 AIN0.2 (in), 21 AIN0.3 (in), 22 HVCAP (io), 23 HVREF (in), 24 HVAINP (in), 25 ~{HVAINN} (in), 26 XTI (in), 27 XTO (out), 28 MONEN (in), 29 P1.7 (io), 30 P1.6 (io), 31 P1.5 (io), 32 P1.4 (io), 33 P1.3 (io), 34 P1.2 (io), 35 P1.1 (io), 36 P1.0 (io), 37 3.3DVDD (power), 38 DGND (power), 39 P2.7 (io), 40 P2.6 (io), 41 P2.5 (io), 42 P2.4 (io), 43 P2.3 (io), 44 P2.2 (io), 45 P2.1 (io), 46 P2.0 (io), 47 P3.7 (io), 48 P3.6 (io), 49 P3.5 (io), 50 P3.4 (io), 51 P3.3 (io), 52 P3.2 (io), 53 P3.1 (io), 54 P3.0 (io), 55 P0.7/WR (io), 56 P0.6/RD (io), 57 P0.5/ALE (io), 58 P0.4 (io), 59 P0.3 (io), 60 P0.2 (io), 61 P0.1/RX0 (io), 62 P0.0/TX0 (io), 63 DGND (power), 64 3.3DVDD (power), 65 P7.7/AD7m/D7 (io), 66 P7.6/AD6m/D6 (io), 67 P7.5/AD5m/D5 (io), 68 P7.4/AD4m/D4 (io), 69 P7.3/AD3m/D3 (io), 70 P7.2/AD2m/D2 (io), 71 P7.1/AD1m/D1 (io), 72 P7.0/AD0m/D0 (io), 73 P6.7/A15m/A7 (io), 74 P6.6/A14m/A6 (io), 75 P6.5/A13m/A5 (io), 76 P6.4/A12m/A4 (io), 77 P6.3/A11m/A3 (io), 78 P6.2/A10m/A2 (io), 79 P6.1/A9m/A1 (io), 80 P6.0/A8m/A0 (io), 81 P5.7/A15 (io), 82 P5.6/A14 (io), 83 P5.5/A13 (io), 84 P5.4/A12 (io), 85 P5.3/A11 (io), 86 P5.2/A10 (io), 87 P5.1/A9 (io), 88 P5.0/A8 (io), 89 DGND (power), 90 3.3DVDD (power), 91 P4.7/WR (io), 92 P4.6/RD (io), 93 P4.5/ALE (io), 94 P4.4 (io), 95 P4.3 (io), 96 P4.2 (io), 97 P4.1 (io), 98 P4.0 (io), 99 NC (out), 100 NC (out)

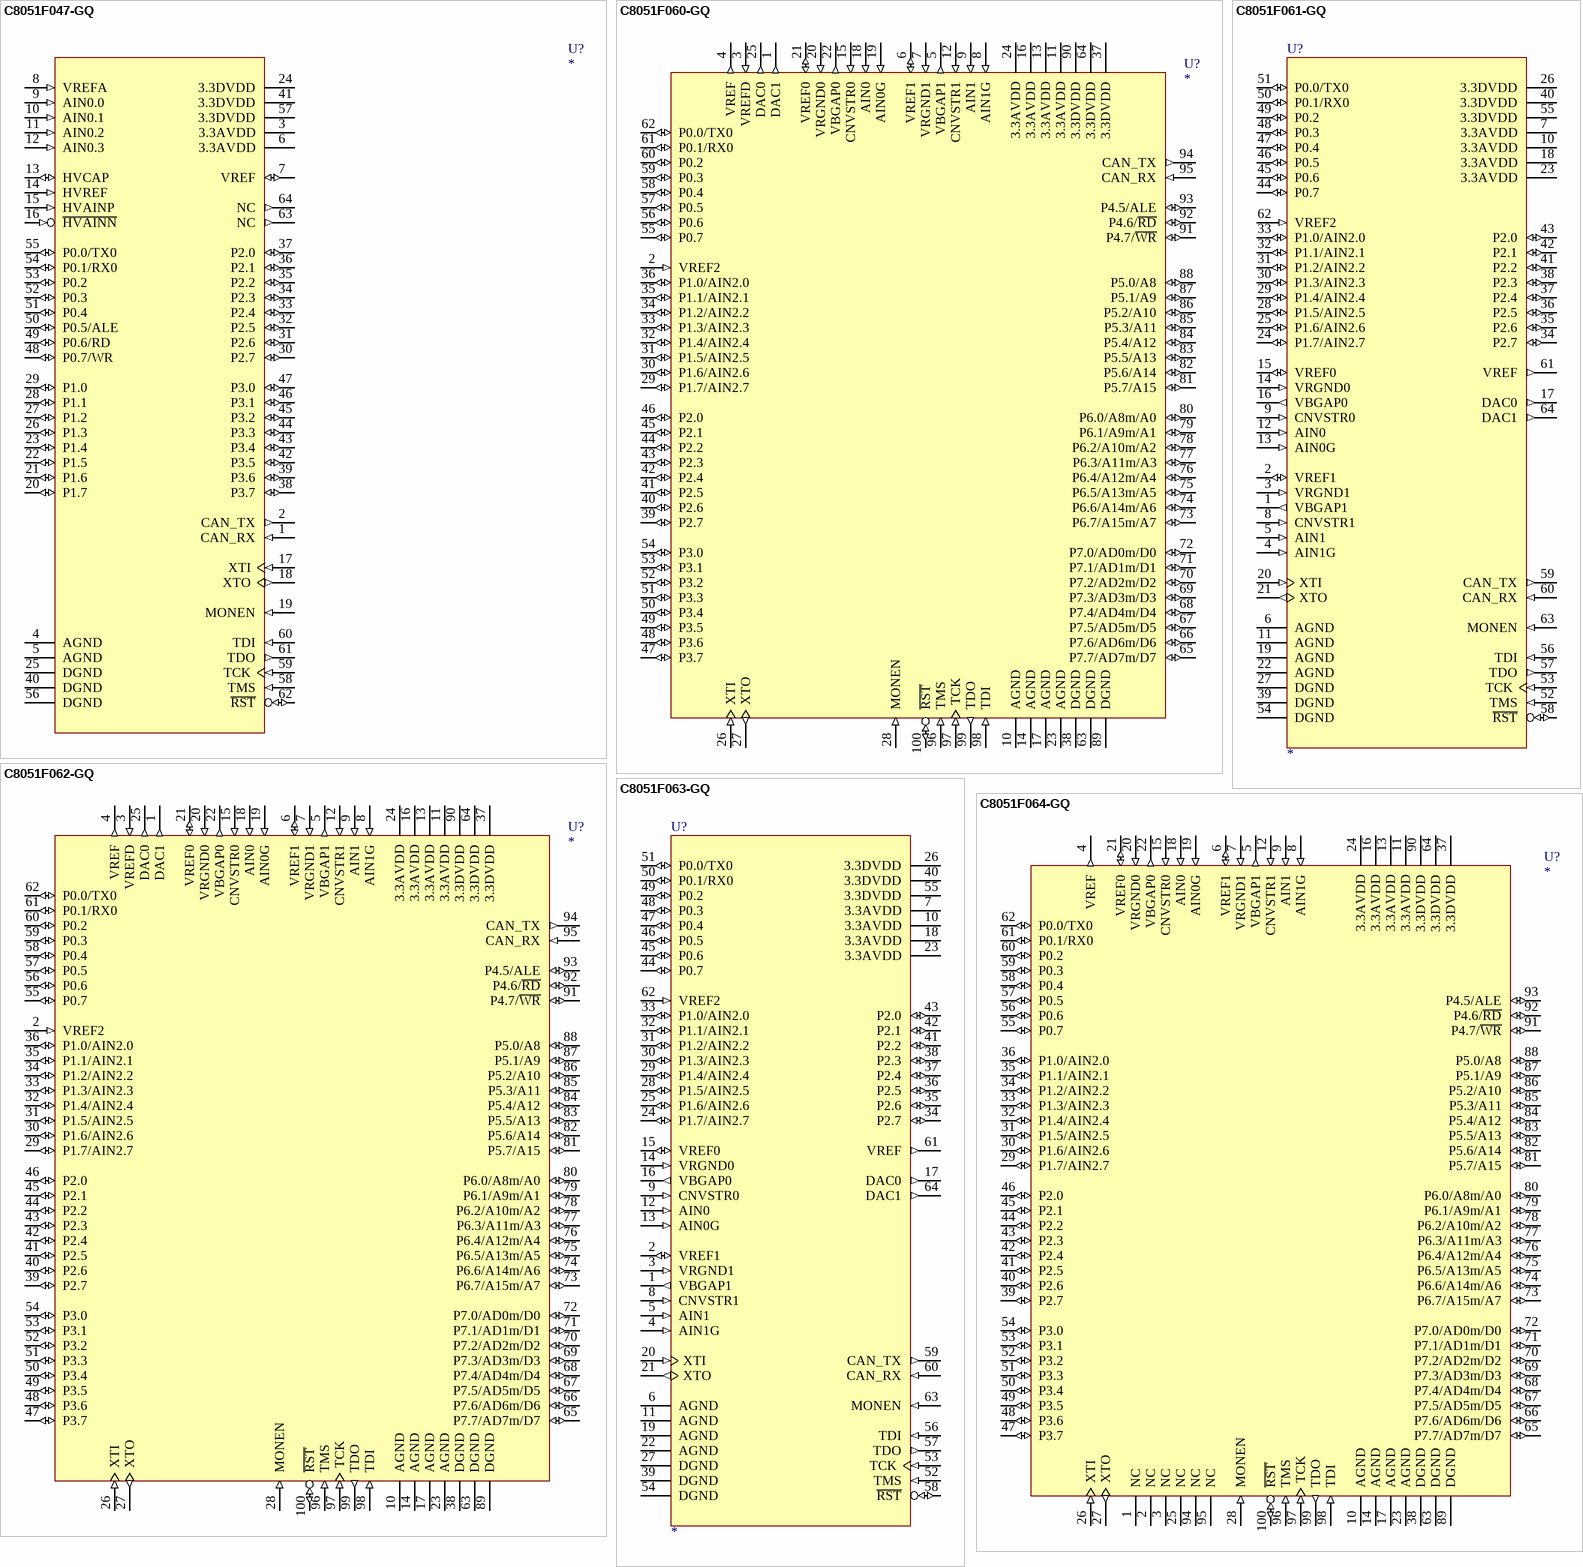
[diagram p6: symbols C8051F047-GQ to C8051F064-GQ]

## C8051F047-GQ
designator U?
CAN 8051 Microcontroller, 25MIPS, 32KiB Flash, 256Byte RAM + 4KiB XRAM, 64KiB EMIF, Internal Oscillator, 5-16bit Timer, 13CH 100ksps 10bit ADC, CAN 2.0B, 2 UART, I2C, SPI, PCA, 3 Comparator, 32GPIO.; Manufacture: Silicon Laboratories; Compliant: RoHS; CompliantInformationSource: Silicon Laboratries; PackageDocument: 2005-12; TempertureRange: Industrial (-40 to +85Cel); ComponentLink1Description: Manufacture Link; ComponentLink1URL: http://www.silabs.com/; ComponentLink2Description: Datasheet; ComponentLink2URL: https://www.silabs.com/Support Documents/TechnicalDocs/C8051F04x.pdf; DatasheetDocument: Rev. 1.5, 2005-12; PackageReference: TQFP-64; Published: 2008-09-16; Publisher: A and A System Co., Ltd.; DigiKeyPartNumber: 336-1212-ND
footprint TQFP-64/e0.5 (TQFP-64; JEDEC MS-026ACD; Body 10.00x10.00x1.20mm; Pitch 0.5mm;)
pins: 1 CAN_RX (in), 2 CAN_TX (out), 3 3.3AVDD (power), 4 AGND (power), 5 AGND (power), 6 3.3AVDD (power), 7 VREF (io), 8 VREFA (in), 9 AIN0.0 (in), 10 AIN0.1 (in), 11 AIN0.2 (in), 12 AIN0.3 (in), 13 HVCAP (io), 14 HVREF (in), 15 HVAINP (in), 16 ~{HVAINN} (in), 17 XTI (in), 18 XTO (out), 19 MONEN (in), 20 P1.7 (io), 21 P1.6 (io), 22 P1.5 (io), 23 P1.4 (io), 24 3.3DVDD (power), 25 DGND (power), 26 P1.3 (io), 27 P1.2 (io), 28 P1.1 (io), 29 P1.0 (io), 30 P2.7 (io), 31 P2.6 (io), 32 P2.5 (io), 33 P2.4 (io), 34 P2.3 (io), 35 P2.2 (io), 36 P2.1 (io), 37 P2.0 (io), 38 P3.7 (io), 39 P3.6 (io), 40 DGND (power), 41 3.3DVDD (power), 42 P3.5 (io), 43 P3.4 (io), 44 P3.3 (io), 45 P3.2 (io), 46 P3.1 (io), 47 P3.0 (io), 48 P0.7/WR (io), 49 P0.6/RD (io), 50 P0.5/ALE (io), 51 P0.4 (io), 52 P0.3 (io), 53 P0.2 (io), 54 P0.1/RX0 (io), 55 P0.0/TX0 (io), 56 DGND (power), 57 3.3DVDD (power), 58 TMS (in), 59 TCK (in), 60 TDI (in), 61 TDO (out), 62 ~{RST} (io), 63 NC (out), 64 NC (out)

## C8051F060-GQ
designator U?
CAN 8051 Microcontroller, 25MIPS, 64KiB Flash, 256Byte RAM + 4KiB XRAM, 64KiB EMIF, Internal Oscillator, 5-16bit Timer, 2CH 1Msps 16bit +/-0.75INL ADC, 8CH 200ksps 10bit ADC, 2CH 12bit DAC, CAN 2.0B, 2 UART, I2C, SPI, PCA, 3 Comparator, 59GPIO.; Manufacture: Silicon Laboratories; Compliant: RoHS; CompliantInformationSource: Silicon Laboratries; PackageDocument: 2004-07; TempertureRange: Industrial (-40 to +85Cel); ComponentLink1Description: Manufacture Link; ComponentLink1URL: http://www.silabs.com/; ComponentLink2Description: Datasheet; ComponentLink2URL: https://www.silabs.com/Support Documents/TechnicalDocs/C8051F06x.pdf; DatasheetDocument: Rev. 1.2, 2004-07; PackageReference: TQFP-100; Published: 2006-05-07; Publisher: A and A System Co., Ltd.; DigiKeyPartNumber: 336-1213-ND
footprint TQFP-100/e0.5 (TQFP-100; Body Width 16mm; Pitch 0.5mm)
pins: 1 DAC1 (out) "Digital to Analog Converter 1 Voltage Output. (See DAC Specification for complete description).", 2 VREF2 (in) "ADC2 Voltage Reference Input.", 3 VREFD (in) "DAC0 and DAC1 Voltage Reference Input.", 4 VREF (out) "Bandgap Voltage Reference Output", 5 VBGAP1 (out) "ADC1 Bandgap Bypass Pin.", 6 VREF1 (io) "Bandgap Voltage Reference Output for ADC1. ADC1 Voltage Reference Input.", 7 VRGND1 (in) "ADC1 Voltage Reference Ground. This pin should  be grounded if using the ADC.", 8 AIN1G (in) "ADC1 DC Bias Input (See ADC1 Specification for complete description).", 9 AIN1 (in) "ADC1 Signal Input (See ADC1 Specification for complete description).", 10 AGND (power) "Analog Ground. Must be tied to Ground.", 11 3.3AVDD (power) "Analog Supply Voltage. Must be tied to +2.7 to  +3.6 V.", 12 CNVSTR1 (in) "External Conversion Start Source for ADC1", 13 3.3AVDD (power) "Analog Supply Voltage. Must be tied to +2.7 to  +3.6 V.", 14 AGND (power) "Analog Ground. Must be tied to Ground.", 15 CNVSTR0 (in) "External Conversion Start Source for ADC0", 16 3.3AVDD (power) "Analog Supply Voltage. Must be tied to +2.7 to  +3.6 V.", 17 AGND (power) "Analog Ground. Must be tied to Ground.", 18 AIN0 (in) "ADC0 Input Channel 0 (See ADC0 Specification for complete description).", 19 AIN0G (in) "ADC0 DC Bias Input (See ADC0 Specification for complete description).", 20 VRGND0 (in) "ADC0 Voltage Reference Ground. This pin should  be grounded if using the ADC.", 21 VREF0 (io) "Bandgap Voltage Reference Output for ADC0. ADC0 Voltage Reference Input.", 22 VBGAP0 (out) "ADC0 Bandgap Bypass Pin.", 23 AGND (power) "Analog Ground. Must be tied to Ground.", 24 3.3AVDD (power) "Analog Supply Voltage. Must be tied to +2.7 to  +3.6 V.", 25 DAC0 (out) "Digital to Analog Converter 0 Voltage Output. (See DAC Specification for complete description).", 26 XTI (in) "Crystal Input. This pin is the return for the internal oscillator circuit for a crystal or ceramic resonator. For a precision internal clock, connect a crystal or ceramic resonator from XTAL1 to XTAL2. If overdriven by an external CMOS clock, this become", 27 XTO (out) "Crystal Output. This pin is the excitation driver for a crystal or ceramic resonator.", 28 MONEN (in) "VDD Monitor Enable. When tied high, this pin enables the internal VDD monitor, which forces a system reset when VDD is < VRST. When tied low, the internal VDD monitor is disabled. This pin must be tied high or low.", 29 P1.7/AIN2.7 (io) "Port 1.7. See Port Input/Output section for complete description. ADC2 Input Channel 7 (C8051F060/1/2/3 Only).", 30 P1.6/AIN2.6 (io) "Port 1.6. See Port Input/Output section for complete description. ADC2 Input Channel 6 (C8051F060/1/2/3 Only).", 31 P1.5/AIN2.5 (io) "Port 1.5. See Port Input/Output section for complete description. ADC2 Input Channel 5 (C8051F060/1/2/3 Only).", 32 P1.4/AIN2.4 (io) "Port 1.4. See Port Input/Output section for complete description. ADC2 Input Channel 4 (C8051F060/1/2/3 Only).", 33 P1.3/AIN2.3 (io) "Port 1.3. See Port Input/Output section for complete description. ADC2 Input Channel 3 (C8051F060/1/2/3 Only).", 34 P1.2/AIN2.2 (io) "Port 1.2. See Port Input/Output section for complete description. ADC2 Input Channel 2 (C8051F060/1/2/3 Only).", 35 P1.1/AIN2.1 (io) "Port 1.1. See Port Input/Output section for complete description. ADC2 Input Channel 1 (C8051F060/1/2/3 Only).", 36 P1.0/AIN2.0 (io) "Port 1.0. See Port Input/Output section for complete description. ADC2 Input Channel 0 (C8051F060/1/2/3 Only).", 37 3.3DVDD (power) "Digital Supply Voltage. Must be tied to +2.7 to +3.6 V.", 38 DGND (power) "Digital Ground. Must be tied to Ground.", 39 P2.7 (io) "Port 2.7. See Port Input/Output section for complete description.", 40 P2.6 (io) "Port 2.6. See Port Input/Output section for complete description.", 41 P2.5 (io) "Port 2.5. See Port Input/Output section for complete description.", 42 P2.4 (io) "Port 2.4. See Port Input/Output section for complete description.", 43 P2.3 (io) "Port 2.3. See Port Input/Output section for complete description.", 44 P2.2 (io) "Port 2.2. See Port Input/Output section for complete description.", 45 P2.1 (io) "Port 2.1. See Port Input/Output section for complete description.", 46 P2.0 (io) "Port 2.0. See Port Input/Output section for complete description.", 47 P3.7 (io) "Port 3.7. See Port Input/Output section for complete description.", 48 P3.6 (io) "Port 3.6. See Port Input/Output section for complete description.", 49 P3.5 (io) "Port 3.5. See Port Input/Output section for complete description.", 50 P3.4 (io) "Port 3.4. See Port Input/Output section for complete description.", 51 P3.3 (io) "Port 3.3. See Port Input/Output section for complete description.", 52 P3.2 (io) "Port 3.2. See Port Input/Output section for complete description.", 53 P3.1 (io) "Port 3.1. See Port Input/Output section for complete description.", 54 P3.0 (io) "Port 3.0. See Port Input/Output section for complete description.", 55 P0.7 (io) "Port 0.7. See Port Input/Output section for complete description.", 56 P0.6 (io) "Port 0.6. See Port Input/Output section for complete description.", 57 P0.5 (io) "Port 0.5. See Port Input/Output section for complete description.", 58 P0.4 (io) "Port 0.4. See Port Input/Output section for complete description.", 59 P0.3 (io) "Port 0.3. See Port Input/Output section for complete description.", 60 P0.2 (io) "Port 0.2. See Port Input/Output section for complete description.", 61 P0.1/RX0 (io) "Port 0.1. See Port Input/Output section for complete description.", 62 P0.0/TX0 (io) "Port 0.0. See Port Input/Output section for complete description.", 63 DGND (power) "Digital Ground. Must be tied to Ground.", 64 3.3DVDD (power) "Digital Supply Voltage. Must be tied to +2.7 to +3.6 V.", 65 P7.7/AD7m/D7 (io) "Port 7.7. See Port Input/Output section for complete description.", 66 P7.6/AD6m/D6 (io) "Port 7.6. See Port Input/Output section for complete description.", 67 P7.5/AD5m/D5 (io) "Port 7.5. See Port Input/Output section for complete description.", 68 P7.4/AD4m/D4 (io) "Port 7.4. See Port Input/Output section for complete description.", 69 P7.3/AD3m/D3 (io) "Port 7.3. See Port Input/Output section for complete description.", 70 P7.2/AD2m/D2 (io) "Port 7.2. See Port Input/Output section for complete description.", 71 P7.1/AD1m/D1 (io) "Port 7.1. See Port Input/Output section for complete description.", 72 P7.0/AD0m/D0 (io) "Port 7.0. Bit 0 External Memory Address/Data bus (Multiplexed mode) Bit 0 External Memory Data bus (Non-multiplexed mode) See Port Input/Output section for complete description.", 73 P6.7/A15m/A7 (io) "Port 6.7. See Port Input/Output section for complete description.", 74 P6.6/A14m/A6 (io) "Port 6.6. See Port Input/Output section for complete description.", 75 P6.5/A13m/A5 (io) "Port 6.5. See Port Input/Output section for complete description.", 76 P6.4/A12m/A4 (io) "Port 6.4. See Port Input/Output section for complete description.", 77 P6.3/A11m/A3 (io) "Port 6.3. See Port Input/Output section for complete description.", 78 P6.2/A10m/A2 (io) "Port 6.2. See Port Input/Output section for complete description.", 79 P6.1/A9m/A1 (io) "Port 6.1. See Port Input/Output section for complete description.", 80 P6.0/A8m/A0 (io) "Port6.0. Bit 8 External Memory Address bus (Multiplexed mode) Bit 0 External Memory Address bus (Non-multiplexed mode) See Port Input/Output section for complete description.", 81 P5.7/A15 (io) "Port 5.7. See Port Input/Output section for complete description.", 82 P5.6/A14 (io) "Port 5.6. See Port Input/Output section for complete description.", 83 P5.5/A13 (io) "Port 5.5. See Port Input/Output section for complete description.", 84 P5.4/A12 (io) "Port 5.4. See Port Input/Output section for complete description.", 85 P5.3/A11 (io) "Port 5.3. See Port Input/Output section for complete description.", 86 P5.2/A10 (io) "Port 5.2. See Port Input/Output section for complete description.", 87 P5.1/A9 (io) "Port 5.1. See Port Input/Output section for complete description.", 88 P5.0/A8 (io) "Port 5.0. Bit 8 External Memory Address bus (Non-multiplexed mode) See Port Input/Output section for complete description.", 89 DGND (power) "Digital Ground. Must be tied to Ground.", 90 3.3DVDD (power) "Digital Supply Voltage. Must be tied to +2.7 to +3.6 V.", 91 P4.7/~{WR} (io) "Port 4.7. WR Strobe for External Memory Address bus. See Port Input/Output section for complete description.", 92 P4.6/~{RD} (io) "P4.6. RD Strobe for External Memory Address bus. See Port Input/Output section for complete description.", 93 P4.5/ALE (io) "Port 4.5, ALE Strobe for External Memory Address bus (multiplexed mode) See Port Input/Output section for complete description.", 94 CAN_TX (out) "Controller Area Network Transmit Output.", 95 CAN_RX (in) "Controller Area Network Receive Input.", 96 TMS (in) "JTAG Test Mode Select with internal pullup.", 97 TCK (in) "JTAG Test Clock with internal pullup.", 98 TDI (in) "JTAG Test Data Input with internal pullup.TDI is latched on the rising edge of TCK.", 99 TDO (out) "JTAG Test Data Output with internal pullup. Data is shifted out on TDO on the falling edge of TCK.  TDO output is a tri-state driver.", 100 ~{RST} (io) "Device Reset. Open-drain output of internal VDD monitor. Is driven low when VDD is < VRST and  MONEN is high. An external source can initiate  a system reset by driving this pin low."